# Altium footprint library P6LU.PcbLib: 1 footprints
Each footprint in its own frame and in the unit in brackets; x right, y up, seen from the top. Pads: shape width x height; smd on the part's side, far side on the other; paste and mask are expansions set on the pad; w line width, h text height; cw(c..) or ccw(c..) is an arc to the next point about the centre after c.
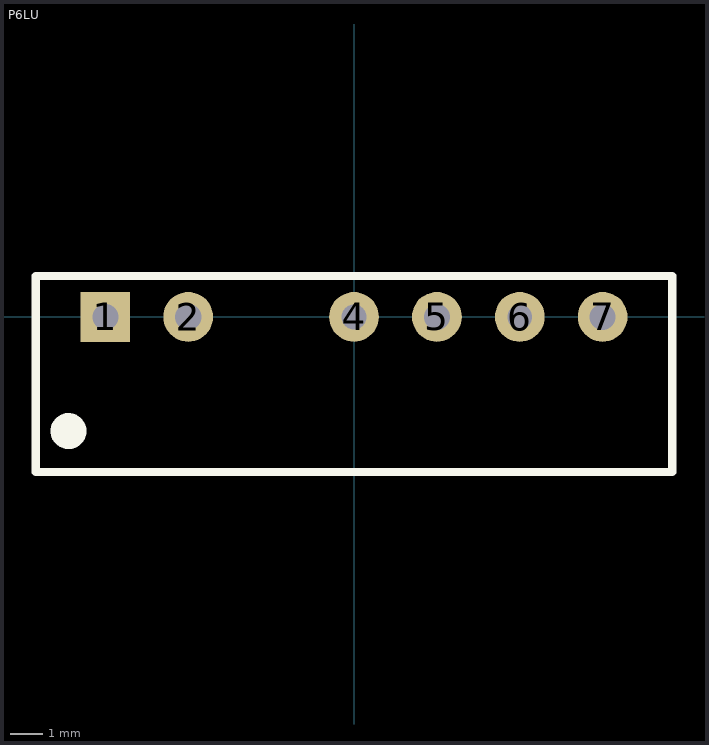
[diagram p0: the footprint, top view; thin cyan lines are the x and y axes]

## P6LU [mil] "DC-DC isolated module"
height 393.7
pads (6):
  rect 60x60 hole 31.5: 1(-300,0)
  round 60 hole 31.5: 2(-200,0) 5(100,0) 7(300,0)
  round 60 hole 30: 4(0,0) 6(200,0)
Top Overlay:
  circle w23.62: c-344.49,-137.8 r9.84
  lines w10: -383.86,-187.01 -383.86,49.21 383.86,49.21 383.86,-187.01 -383.86,-187.01
3D body "User Library-SIP-4(7)_A6.step": height 400.39, standoff -88.19, extent -379.92,-188.78 379.92,50.99